# EAGLE library part 750313974 (library MotorControllerEagleLibrary)
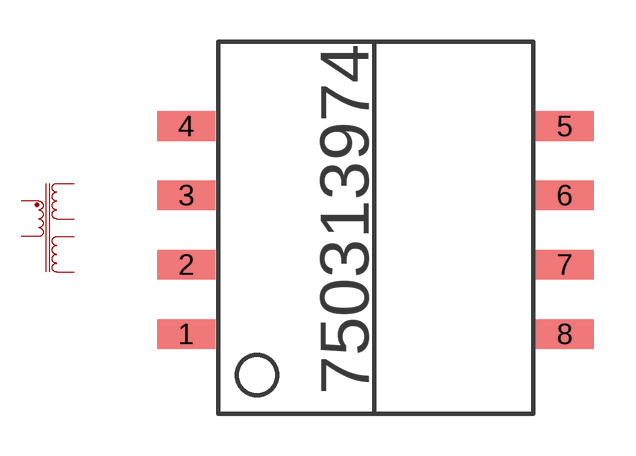
[diagram p3: symbol with the pads of 750313974_TRANSFORMER; footprint 750313974_TRANSFORMER]

Designator prefix -

## 750313974  [750313974_TRANSFORMER]
1  1
4  4
5  5
6  6
7  7
8  8

## Footprint 750313974_TRANSFORMER (pad centres in mm)
smd 2.08 x 1.07: 1 -1.04,-6.93; 2 -1.04,-4.44; 3 -1.04,-1.95; 4 -1.04,0.53; 5 12.52,0.53; 6 12.52,-1.95; 7 12.52,-4.44; 8 12.52,-6.93